# Altium footprint library utilities.PcbLib: 16 footprints
Each footprint in its own frame and in the unit in brackets; x right, y up, seen from the top. Pads: shape width x height; smd on the part's side, far side on the other; paste and mask are expansions set on the pad; w line width, h text height; cw(c..) or ccw(c..) is an arc to the next point about the centre after c.
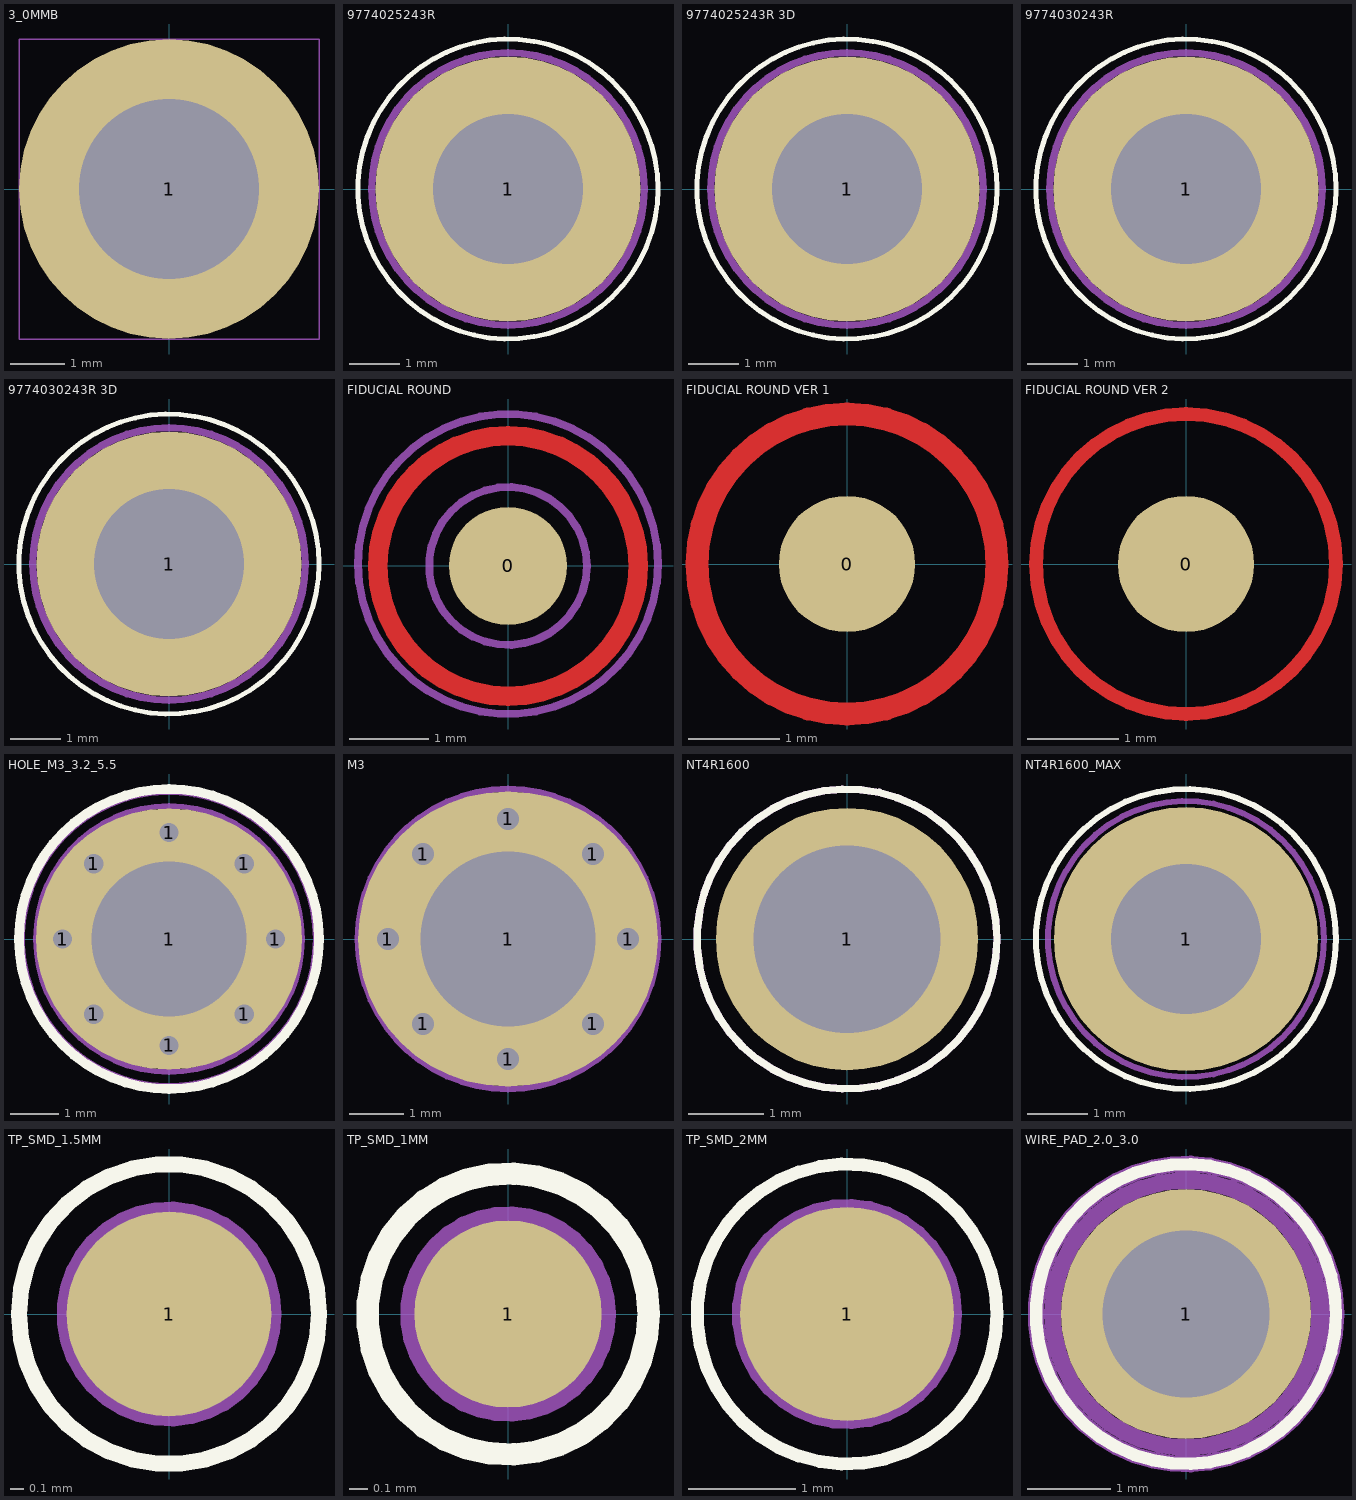
[diagram p0: the footprints below, top view; thin cyan lines are the x and y axes]

## 3_0MMB [mm] "3_0MMB"
pads (1):
  round 5.5 / inner round 4 / far side round 4 hole 3.3: 1(0,0)
Top Assembly:
  text "3MM" at -4.85,0 h0.64
Top 3D Body:
  lines w0.025: -2.75,-2.75 2.75,-2.75 2.75,2.75 -2.75,2.75 -2.75,-2.75
Bottom 3D Body:
  text "1" at -0.254,0 h0.64

## 9774025243R [mm] "WA-SMSI SMT Steel Spacer with  internal Thread h=2.5 mm"
height 2.5
pads (1):
  round 5.3 hole 3: 1(0,0)
Top Overlay:
  circle w0.1: c0,0 r3
Bottom Overlay:
  circle w0.1: c0,0 r3
Top Designator:
  text ".Designator" at -3.049,3.5 h0.6
Top Assembly:
  circle w0.1: c0,0 r2.75
Bottom Assembly:
  circle w0.1: c0,0 r1.5
Top Courtyard:
  circle w0.1: c0,0 r2.7
  lines w0.05: -0.5,0 0.5,0 ; 0,-0.5 0,0.5

## 9774025243R 3D [mm] "WA-SMSI SMT Steel Spacer with  internal Thread h=2.5 mm"
height 2.5
pads (1):
  round 5.3 hole 3: 1(0,0)
Top Overlay:
  circle w0.1: c0,0 r3
Bottom Overlay:
  circle w0.1: c0,0 r3
Top Designator:
  text ".Designator" at -3.049,3.5 h0.6
Top Assembly:
  circle w0.1: c0,0 r2.75
Bottom Assembly:
  circle w0.1: c0,0 r1.5
Top Courtyard:
  circle w0.1: c0,0 r2.7
  lines w0.05: -0.5,0 0.5,0 ; 0,-0.5 0,0.5
3D body "9774025243R.stp": height 2.55, standoff -1.35, extent -2.175,-2.172 2.175,2.172

## 9774030243R [mm] "WA-SMSI SMT Steel Spacer with  internal Thread h=3.0 mm"
height 3
pads (1):
  round 5.3 hole 3: 1(0,0)
Top Overlay:
  circle w0.1: c0,0 r3
Bottom Overlay:
  circle w0.1: c0,0 r3
Top Designator:
  text ".Designator" at -3.049,3.5 h0.6
Top Assembly:
  circle w0.1: c0,0 r2.75
Bottom Assembly:
  circle w0.1: c0,0 r1.5
Top Courtyard:
  circle w0.1: c0,0 r2.7
  lines w0.05: -0.5,0 0.5,0 ; 0,-0.5 0,0.5

## 9774030243R 3D [mm] "WA-SMSI SMT Steel Spacer with  internal Thread h=3.0 mm"
height 3
pads (1):
  round 5.3 hole 3: 1(0,0)
Top Overlay:
  circle w0.1: c0,0 r3
Bottom Overlay:
  circle w0.1: c0,0 r3
Top Designator:
  text ".Designator" at -3.049,3.5 h0.6
Top Assembly:
  circle w0.1: c0,0 r2.75
Bottom Assembly:
  circle w0.1: c0,0 r1.5
Top Courtyard:
  circle w0.1: c0,0 r2.7
  lines w0.05: -0.5,0 0.5,0 ; 0,-0.5 0,0.5
3D body "9774030243R.stp": height 3.05, standoff -1.35, extent -2.175,-2.172 2.175,2.172

## FIDUCIAL ROUND [mm]
pads (1):
  round 1.5 smd paste-2539.97 mask+1.1: 0(0,0)
Top Layer:
  lines w0.25: 0,-1.65 ccw(c0,0) 0,1.65 ccw(c0,0) 0,-1.65
Top Designator:
  text ".Designator" at -2.899,2.45 h0.6
Top Assembly:
  circle w0.1: c0,0 r1
  circle w0.1: c0,0.025 r1.9
Top Courtyard:
  lines w0.05: -0.5,0 0.5,0 ; 0,-0.5 0,0.5

## FIDUCIAL ROUND VER 1 [mm]
pads (1):
  round 1.5 smd paste-2539.97 mask+1.1: 0(0,0)
Top Layer:
  lines w0.25: 0,-1.65 cw(c0,0) 0,1.65 cw(c0,0) 0,-1.65
Top Courtyard:
  lines w0.05: -0.5,0 0.5,0 ; 0,-0.5 0,0.5

## FIDUCIAL ROUND VER 2 [mm]
pads (1):
  round 1.5 smd paste-2539.97 mask+1.1: 0(0,0)
Top Layer:
  lines w0.15: 0,-1.65 cw(c0,0) 0,1.65 cw(c0,0) 0,-1.65
Top Designator:
  text ".Designator" at -2.899,2.325 h0.6
Top Courtyard:
  lines w0.05: -0.5,0 0.5,0 ; 0,-0.5 0,0.5

## HOLE_M3_3.2_5.5 [mm] "M3 normal pad 5.5mm copper ring"
pads (9):
  round 0.6 hole 0.4 paste-2539.97 mask-0.6: 1(-2.2,0) 1(-1.556,-1.556) 1(-1.556,1.556) 1(0,2.2) 1(1.556,-1.556) 1(1.556,1.556) 1(2.2,0)
  round 0.6 hole 0.4 paste-2539.97 mask-0.4: 1(0,-2.2)
  oval 5.5x5.4 hole 3.2: 1(0,0)
Top Overlay:
  circle w0.2: c0,0 r3.1
Bottom Overlay:
  circle w0.2: c0,0 r3.1
Top Designator:
  text ".Designator" at -2.949,3.725 h0.6
Top Assembly:
  circle w0.12: c0,0 r2.75
  circle w0.12: c0,0 r1.5
Bottom Assembly:
  circle w0.12: c0,0 r2.75
  circle w0.12: c0,0 r1.5
Top Courtyard:
  circle w0.05: c0,0 r0.25
  circle w0.05: c0,0 r3
  lines w0.05: -0.35,0 0.35,0 ; 0,-0.35 0,0.35
Bottom Courtyard:
  circle w0.05: c0,0 r3

## M3 [mm] "M3 normal pad 5.5mm copper ring"
pads (9):
  round 0.6 hole 0.4 paste-2539.97 mask-0.6: 1(-2.2,0) 1(-1.556,-1.556) 1(-1.556,1.556) 1(0,2.2) 1(1.556,-1.556) 1(1.556,1.556) 1(2.2,0)
  round 0.6 hole 0.4 paste-2539.97 mask-0.4: 1(0,-2.2)
  oval 5.5x5.4 hole 3.2: 1(0,0)
Top Dimensions:
  circle w0.12: c0,0 r2.75
  circle w0.12: c0,0 r1.5
Bottom Assembly:
  circle w0.12: c0,0 r2.75
  circle w0.12: c0,0 r1.5
Top Courtyard:
  circle w0.05: c0,0 r2.75
  circle w0.05: c0,0 r0.25
  lines w0.05: -0.35,0 0.35,0 ; 0,-0.35 0,0.35

## NT4R1600 [mm] "NT4R1600 - Connector Standoff For PCI Express Mini Card from JAE Electronics"
height 5.9
pads (1):
  round 3.5 hole 2.5 paste-2539.97: 1(0,0)
Top Overlay:
  circle w0.1: c0,0 r2
Top Designator:
  text ".Designator" at -2.899,2.55 h0.6
Top Assembly:
  circle w0.1: c0,0 r2
  circle w0.1: c0,0 r1.25
Top Courtyard:
  lines w0.05: -0.5,0 0.5,0 ; 0,-0.5 0,0.5

## NT4R1600_MAX [mm] "NT4R1600 - Connector Standoff For PCI Express Mini Card from JAE Electronics"
height 5.9
pads (1):
  round 4.4 hole 2.5 paste-2539.97: 1(0,0)
Top Overlay:
  circle w0.1: c0,0 r2.5
Top Designator:
  text ".Designator" at -2.874,3 h0.6
Top Assembly:
  circle w0.1: c0,0 r1.25
  circle w0.1: c0,0 r2.3
Top Courtyard:
  lines w0.05: -0.5,0 0.5,0 ; 0,-0.5 0,0.5
3D body "nt4r1600.stp": height 3.55, standoff -0.6, extent -2,-2 2,2

## TP_SMD_1.5MM [mm]
pads (1):
  round 1.5 smd mask+0.05: 1(0,0)
Top Overlay:
  circle w0.12: c0,0 r1.1
Top Designator:
  text ".Designator" at -2.474,1.4 h0.6
Top Assembly:
  circle w0.15: c0,0 r0.75
Top Courtyard:
  circle w0.01: c0,0 r0.8
  lines w0.05: -0.5,0 0.5,0 ; 0,-0.5 0,0.5

## TP_SMD_1MM [mm]
pads (1):
  round 1 smd mask+0.05: 1(0,0)
Top Overlay:
  circle w0.12: c0,0 r0.75
Top Designator:
  text ".Designator" at -2.574,1.125 h0.6
Top Assembly:
  circle w0.15: c0,0 r0.5
Top Courtyard:
  circle w0.01: c0,0 r0.8
  lines w0.05: -0.5,0 0.5,0 ; 0,-0.5 0,0.5

## TP_SMD_2MM [mm]
pads (1):
  round 2 smd mask+0.05: 1(0,0)
Top Overlay:
  circle w0.12: c0,0 r1.4
Top Designator:
  text ".Designator" at -2.999,1.825 h0.6
Top Assembly:
  circle w0.15: c0,0 r1
Top Courtyard:
  circle w0.01: c0,0 r0.8
  lines w0.05: -0.5,0 0.5,0 ; 0,-0.5 0,0.5

## WIRE_PAD_2.0_3.0 [mm] "Through-hole pad, 2.0mm hole, 3.0mm annular ring"
pads (1):
  round 3 hole 2: 1(0,0)
Top Overlay:
  circle w0.15: c0,0 r1.8
Bottom Dimensions:
  circle w0.2: c0,0 r1.8
  text ".Designator" at -1.925,2 h1
Top Courtyard:
  circle w0.2: c0,0 r1.6